# Altium schematic symbol library L5970D.SchLib: 2 symbols
Pins are listed as number, name and electrical type; pins without a type are passive.

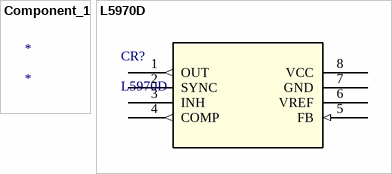
[diagram p0: symbols Component_1 to L5970D]

## Component_1
designator *

## L5970D
designator CR?
No Description Available; Mfr_Name: STMicroelectronics; Type: DEV; Copyright: Copyright (C) 2022 Ultra Librarian. All rights reserved.; Manufacturer_Part_Number: L5970D; Digi-Key_Part_Number_1: 497-1415-5-ND; RefDes: RefDes
footprint SO-8_STM
pins: 1 OUT (out), 2 SYNC, 3 INH, 4 COMP (out), 5 FB (in), 6 VREF (power), 7 GND (power), 8 VCC (power)